# Altium footprint library IC.PcbLib: 31 footprints (part 1 of 2)
Each footprint in its own frame and in the unit in brackets; x right, y up, seen from the top. Pads: shape width x height; smd on the part's side, far side on the other; paste and mask are expansions set on the pad; w line width, h text height; cw(c..) or ccw(c..) is an arc to the next point about the centre after c.
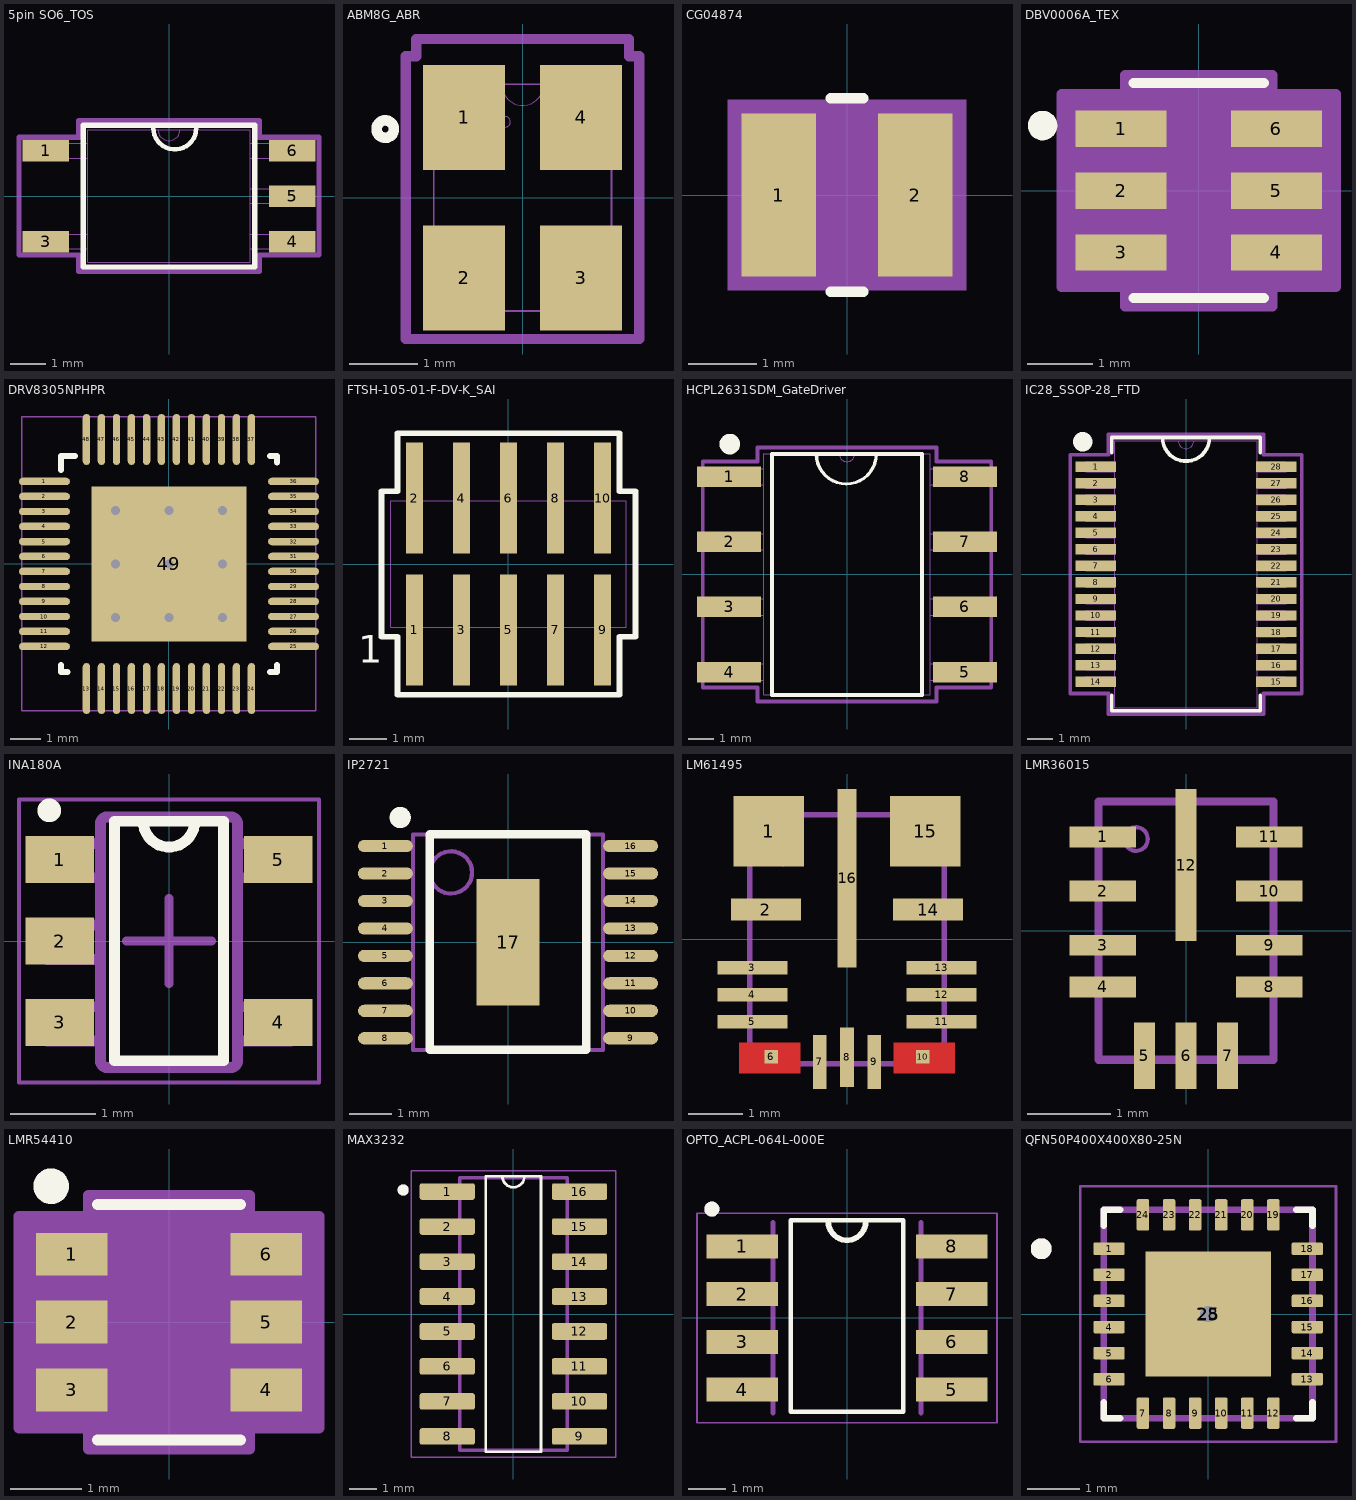
[diagram p0: the footprints below, top view; thin cyan lines are the x and y axes]

## 5pin SO6_TOS [mm]
pads (5):
  rect 1.3x0.6 smd paste+0: 1(-3.442,1.27) 3(-3.442,-1.27) 4(3.442,-1.27) 5(3.442,0) 6(3.442,1.27)
Top Overlay:
  lines w0.127: -0.438,1.905 ccw(c0.162,1.905) 0.762,1.905
  lines w0.152: -2.4,-1.981 -2.4,1.981 2.4,1.981 2.4,-1.981 -2.4,-1.981
Mechanical 13:
  lines w0: -0.305,1.854 ccw(c0,1.854) 0.305,1.854
  lines w0.025: -3.696,-1.473 -2.273,-1.473 -2.273,-1.067 -3.696,-1.067 -3.696,-1.473 ; -3.696,1.067 -2.273,1.067 -2.273,1.473 -3.696,1.473 -3.696,1.067 ; -2.273,-1.854 -2.273,1.854 2.273,1.854 2.273,-1.854 -2.273,-1.854 ; 2.273,-1.473 3.696,-1.473 3.696,-1.067 2.273,-1.067 2.273,-1.473 ; 2.273,-0.203 3.696,-0.203 3.696,0.203 2.273,0.203 2.273,-0.203 ; 2.273,1.067 3.696,1.067 3.696,1.473 2.273,1.473 2.273,1.067
Mechanical 15:
  lines w0.152: -4.196,-1.645 -4.196,1.645 -2.523,1.645 -2.523,2.104 2.523,2.104 2.523,1.645 4.196,1.645 4.196,-1.645 2.523,-1.645 2.523,-2.104 -2.523,-2.104 -2.523,-1.645 -4.196,-1.645
3D body "5pin SO6.step": height 2.2, standoff 0, extent -3.5,-1.85 3.5,1.85

## ABM8G_ABR [mil]
pads (4):
  rect 47x60 smd paste+0 mask+2: 1(-33.5,46) 2(-33.5,-46) 3(33.5,-46) 4(33.5,46)
Top Overlay:
  circle w6: c-78.74,39.37 r5
Mechanical 13:
  circle w0: c-10,43.5 r3
  lines w0: -12,65 ccw(c0,65) 12,65
  lines w1: -51,-65 -51,65 51,65 51,-65 -51,-65
Mechanical 15:
  lines w6: -67,-81 -61,-81 61,-81 67,-81 67,81 61,81 61,91 -61,91 -61,81 -67,81 -67,-81
3D body "ABM8G_ABR.step": height 39.09, standoff 0, extent -50.98,-65 50.98,65

## CG04874 [mm]
pads (2):
  rect 1.1x2.4 smd paste+0 mask+0: 1(-1.003,0) 2(1.003,0)
Top Overlay:
  lines w0.152: -0.242,-1.422 0.242,-1.422 ; -0.242,1.422 0.242,1.422
Mechanical 13:
  circle w0: c-0.457,0 r0.076
  lines w0: -0.305,1.295 ccw(c0,1.295) 0.305,1.295
  lines w0.025: -1.651,-1.295 1.651,-1.295 1.651,1.295 -1.651,1.295 -1.651,-1.295
Mechanical 15:
  region: -1.753,-1.27 -1.753,1.27 -1.753,1.397 1.753,1.397 1.753,1.27 1.753,-1.27 1.753,-1.397 -1.753,-1.397
3D body "XTAL_CG04874_NDK.step": height 0.99, standoff 0, extent -1.651,-1.295 1.651,1.295

## DBV0006A_TEX [mil]
pads (6):
  rect 55.12x22 smd paste+0 mask+2.76: 1(-47,37.4) 2(-47,0) 3(-47,-37.4) 4(47,-37.4) 5(47,0) 6(47,37.4)
Top Overlay:
  circle w10: c-94.49,39.37 r3.94
  lines w6: -39.5,-65 39.5,-65 ; -39.5,65 39.5,65
Mechanical 13:
  lines w0: -12,60 ccw(c0,60) 12,60
  lines w1: -59,-47.4 -59,-27.4 -34.5,-27.4 -34.5,-47.4 -59,-47.4 ; -59,-10 -59,10 -34.5,10 -34.5,-10 -59,-10 ; -59,27.4 -59,47.4 -34.5,47.4 -34.5,27.4 -59,27.4 ; -34.5,-60 34.5,-60 34.5,60 -34.5,60 -34.5,-60 ; 34.5,-47.4 34.5,-27.4 59,-27.4 59,-47.4 34.5,-47.4 ; 34.5,-10 34.5,10 59,10 59,-10 34.5,-10 ; 34.5,27.4 34.5,47.4 59,47.4 59,27.4 34.5,27.4
  text "RefDes2" at -87.5,-25 h29.53
Mechanical 15:
  region: -44.5,-58.4 -83,-58.4 -83,58.4 -44.5,58.4 -44.5,70 44.5,70 44.5,58.4 83,58.4 83,-58.4 44.5,-58.4 44.5,-70 -44.5,-70
  lines w6: -83,-58.4 -83,58.4 -44.5,58.4 -44.5,70 44.5,70 44.5,58.4 83,58.4 83,-58.4 44.5,-58.4 44.5,-70 -44.5,-70 -44.5,-58.4 -83,-58.4
3D body "DBV0006A_TEX.step": height 57.09, standoff 0, extent -59.02,-60 59.02,60

## DRV8305NPHPR [mm]
pads (49):
  oval 1.7x0.25 smd paste+0 mask+0.051: 1(-4.15,2.75) 2(-4.15,2.25) 3(-4.15,1.75) 4(-4.15,1.25) 5(-4.15,0.75) 6(-4.15,0.25) 7(-4.15,-0.25) 8(-4.15,-0.75) 9(-4.15,-1.25) 10(-4.15,-1.75) 11(-4.15,-2.25) 12(-4.15,-2.75) 25(4.15,-2.75) 26(4.15,-2.25) 27(4.15,-1.75) 28(4.15,-1.25) 29(4.15,-0.75) 30(4.15,-0.25) 31(4.15,0.25) 32(4.15,0.75) 33(4.15,1.25) 34(4.15,1.75) 35(4.15,2.25) 36(4.15,2.75)
  oval 0.25x1.7 smd paste+0 mask+0.051: 13(-2.75,-4.15) 14(-2.25,-4.15) 15(-1.75,-4.15) 16(-1.25,-4.15) 17(-0.75,-4.15) 18(-0.25,-4.15) 19(0.25,-4.15) 20(0.75,-4.15) 21(1.25,-4.15) 22(1.75,-4.15) 23(2.25,-4.15) 24(2.75,-4.15) 37(2.75,4.15) 38(2.25,4.15) 39(1.75,4.15) 40(1.25,4.15) 41(0.75,4.15) 42(0.25,4.15) 43(-0.25,4.15) 44(-0.75,4.15) 45(-1.25,4.15) 46(-1.75,4.15) 47(-2.25,4.15) 48(-2.75,4.15)
  rect 5.17x5.17 smd paste+0 mask+0.051: 49(0,0)
via 1.778,0 diameter 0.6 hole 0.305
via 1.778,-1.778 diameter 0.6 hole 0.305
via 0,-1.778 diameter 0.6 hole 0.305
via -1.778,-1.778 diameter 0.6 hole 0.305
via -1.778,0 diameter 0.6 hole 0.305
via -1.778,1.778 diameter 0.6 hole 0.305
via 0,1.778 diameter 0.6 hole 0.305
via 1.778,1.778 diameter 0.6 hole 0.305
via 0,0 diameter 0.6 hole 0.305
Top Overlay:
  lines w0.2: -3.6,-3.375 -3.6,-3.6 -3.375,-3.6 ; -3.6,3.125 -3.6,3.6 -3.125,3.6 ; 3.375,-3.6 3.6,-3.6 3.6,-3.375 ; 3.375,3.6 3.6,3.6 3.6,3.375
Mechanical 15:
  lines w0.05: -4.9,-4.9 -4.9,4.9 4.9,4.9 4.9,-4.9 -4.9,-4.9
  lines w0.1: -0.5,0 0.5,0 ; 0,-0.5 0,0.5
3D body "PHP0048N.stp": height 1.1, standoff 0, extent -4.516,-4.515 4.515,4.516

## FTSH-105-01-F-DV-K_SAI [mil]
pads (10):
  rect 17.72x118 smd paste-59 mask+1.97: 1(-100,-70) 2(-100,70) 3(-50,-70) 4(-50,70) 5(0,-70) 6(0,70) 7(50,-70) 8(50,70) 9(100,-70) 10(100,70)
Top Overlay:
  lines w6: -135,-77.5 -118,-77.5 -118,-139 118,-139 118,-77.5 135,-77.5 135,77.5 118,77.5 118,139 -118,139 -118,77.5 -135,77.5 -135,-77.5
  text "1" at -160,-105 h29.53
Mechanical 13:
  lines w1: -125,-67.5 -125,67.5 125,67.5 125,-67.5 -125,-67.5
3D body "ftsh-105-01-f-dv-k.stp": height 236.81, standoff -4.19, extent -124.02,-115 125.98,115

## HCPL2631SDM_GateDriver [mm]
pads (8):
  rect 2.5x0.8 smd paste+0: 1(-4.6,3.81) 2(-4.6,1.27) 3(-4.6,-1.27) 4(-4.6,-3.81) 5(4.6,-3.81) 6(4.6,-1.27) 7(4.6,1.27) 8(4.6,3.81)
Top Overlay:
  circle w0.4: c-4.572,5.08 r0.2
  lines w0.127: -1.199,4.699 ccw(c-0.028,4.699) 1.143,4.699
  lines w0.15: -2.921,-4.699 2.921,-4.699 2.921,4.699 -2.921,4.699 -2.921,-4.699
Mechanical 13:
  lines w0.025: -0.305,4.699 ccw(c0,4.699) 0.305,4.699 ; -5.016,-4.127 -3.238,-4.127 -3.238,-3.492 -5.016,-3.492 -5.016,-4.127 ; -5.016,-1.587 -3.238,-1.587 -3.238,-0.953 -5.016,-0.953 -5.016,-1.587 ; -5.016,0.953 -3.238,0.953 -3.238,1.587 -5.016,1.587 -5.016,0.953 ; -5.016,3.492 -3.238,3.492 -3.238,4.127 -5.016,4.127 -5.016,3.492 ; -3.238,-4.699 -3.238,4.699 3.238,4.699 3.238,-4.699 -3.238,-4.699 ; 3.238,-4.127 5.016,-4.127 5.016,-3.492 3.238,-3.492 3.238,-4.127 ; 3.238,-1.587 5.016,-1.587 5.016,-0.953 3.238,-0.953 3.238,-1.587 ; 3.238,0.953 5.016,0.953 5.016,1.587 3.238,1.587 3.238,0.953 ; 3.238,3.492 5.016,3.492 5.016,4.127 3.238,4.127 3.238,3.492
  text "*" at -3.175,3.353 h1.27
Mechanical 15:
  lines w0.152: -5.626,-4.407 -3.492,-4.407 -3.492,-4.953 3.492,-4.953 3.492,-4.407 5.626,-4.407 5.626,4.407 3.492,4.407 3.492,4.953 -3.492,4.953 -3.492,4.407 -5.626,4.407 -5.626,-4.407
3D body "SO8_PVT422S_INF.step": height 3.99, standoff 0, extent -5.017,-4.699 5.017,4.699

## IC28_SSOP-28_FTD [mm]
pads (28):
  rect 1.6x0.41 smd paste+0 mask+0.06: 1(-3.547,4.225) 2(-3.547,3.575) 3(-3.547,2.925) 4(-3.547,2.275) 5(-3.547,1.625) 6(-3.547,0.975) 7(-3.547,0.325) 8(-3.547,-0.325) 9(-3.547,-0.975) 10(-3.547,-1.625) 11(-3.547,-2.275) 12(-3.547,-2.925) 13(-3.547,-3.575) 14(-3.547,-4.225) 15(3.547,-4.225) 16(3.547,-3.575) 17(3.547,-2.925) 18(3.547,-2.275) 19(3.547,-1.625) 20(3.547,-0.975) 21(3.547,-0.325) 22(3.547,0.325) 23(3.547,0.975) 24(3.547,1.625) 25(3.547,2.275) 26(3.547,2.925) 27(3.547,3.575) 28(3.547,4.225)
Top Overlay:
  circle w0.508: c-4.064,5.207 r0.127
  lines w0.15: -0.927,5.372 ccw(c0,5.372) 0.927,5.372
  lines w0.152: -2.921,-4.773 -2.921,-5.372 2.921,-5.372 2.921,-4.773 ; -2.921,4.773 -2.921,5.372 2.921,5.372 2.921,4.773
Mechanical 13:
  lines w0.025: -0.305,5.245 ccw(c0,5.245) 0.305,5.245 ; -3.95,-4.415 -2.794,-4.415 -2.794,-4.034 -3.95,-4.034 -3.95,-4.415 ; -3.95,-3.765 -2.794,-3.765 -2.794,-3.384 -3.95,-3.384 -3.95,-3.765 ; -3.95,-3.115 -2.794,-3.115 -2.794,-2.734 -3.95,-2.734 -3.95,-3.115 ; -3.95,-2.465 -2.794,-2.465 -2.794,-2.084 -3.95,-2.084 -3.95,-2.465 ; -3.95,-1.815 -2.794,-1.815 -2.794,-1.434 -3.95,-1.434 -3.95,-1.815 ; -3.95,-1.165 -2.794,-1.165 -2.794,-0.784 -3.95,-0.784 -3.95,-1.165 ; -3.95,-0.515 -2.794,-0.515 -2.794,-0.134 -3.95,-0.134 -3.95,-0.515 ; -3.95,0.135 -2.794,0.135 -2.794,0.516 -3.95,0.516 -3.95,0.135 ; -3.95,0.784 -2.794,0.784 -2.794,1.165 -3.95,1.165 -3.95,0.784 ; -3.95,1.435 -2.794,1.435 -2.794,1.816 -3.95,1.816 -3.95,1.435 ; -3.95,2.084 -2.794,2.084 -2.794,2.465 -3.95,2.465 -3.95,2.084 ; -3.95,2.735 -2.794,2.735 -2.794,3.116 -3.95,3.116 -3.95,2.735 ; -3.95,3.384 -2.794,3.384 -2.794,3.765 -3.95,3.765 -3.95,3.384 ; -3.95,4.035 -2.794,4.035 -2.794,4.416 -3.95,4.416 -3.95,4.035 ; -2.794,-5.245 -2.794,5.245 2.794,5.245 2.794,-5.245 -2.794,-5.245 ; 2.794,-4.416 3.95,-4.416 3.95,-4.035 2.794,-4.035 2.794,-4.416 ; 2.794,-3.765 3.95,-3.765 3.95,-3.384 2.794,-3.384 2.794,-3.765 ; 2.794,-3.116 3.95,-3.116 3.95,-2.735 2.794,-2.735 2.794,-3.116 ; 2.794,-2.465 3.95,-2.465 3.95,-2.084 2.794,-2.084 2.794,-2.465 ; 2.794,-1.816 3.95,-1.816 3.95,-1.435 2.794,-1.435 2.794,-1.816 ; 2.794,-1.165 3.95,-1.165 3.95,-0.784 2.794,-0.784 2.794,-1.165 ; 2.794,-0.516 3.95,-0.516 3.95,-0.135 2.794,-0.135 2.794,-0.516 ; 2.794,0.135 3.95,0.135 3.95,0.516 2.794,0.516 2.794,0.135 ; 2.794,0.784 3.95,0.784 3.95,1.165 2.794,1.165 2.794,0.784 ; 2.794,1.435 3.95,1.435 3.95,1.816 2.794,1.816 2.794,1.435 ; 2.794,2.084 3.95,2.084 3.95,2.465 2.794,2.465 2.794,2.084 ; 2.794,2.735 3.95,2.735 3.95,3.116 2.794,3.116 2.794,2.735 ; 2.794,3.384 3.95,3.384 3.95,3.765 2.794,3.765 2.794,3.384 ; 2.794,4.035 3.95,4.035 3.95,4.416 2.794,4.416 2.794,4.035
  text "*" at -2.73,3.899 h1.27
Mechanical 15:
  lines w0.152: -4.554,-4.694 -3.048,-4.694 -3.048,-5.499 3.048,-5.499 3.048,-4.694 4.554,-4.694 4.554,4.694 3.048,4.694 3.048,5.499 -3.048,5.499 -3.048,4.694 -4.554,4.694 -4.554,-4.694
3D body "IC28_SSOP-28_FTD.step": height 2.01, standoff 0, extent -3.95,-5.245 3.95,5.245

## INA180A [mm]
pads (5):
  rect 0.8x0.55 smd paste+0 mask+0.051: 1(-1.275,0.95) 2(-1.275,0) 3(-1.275,-0.95) 4(1.275,-0.95) 5(1.275,0.95)
Top Overlay:
  circle w0.254: c-1.397,1.524 r0.01
  lines w0.127: -0.3,1.397 ccw(c0,1.397) 0.3,1.397 ; -0.635,-1.397 -0.635,1.397 0.635,1.397 0.635,-1.397 -0.635,-1.397
Mechanical 13:
  lines w0.127: -0.801,1.371 cw(c-0.725,1.37) -0.725,1.446 ; -0.801,1.37 -0.801,-1.399 -0.801,-1.4 ccw(c-0.725,-1.399) -0.725,-1.475 ; -0.801,1.37 -0.801,1.371 ; -0.725,-1.475 -0.725,-1.475 ; -0.725,-1.475 0.723,-1.475 0.724,-1.475 ccw(c0.723,-1.399) 0.799,-1.4 0.799,-1.399 0.799,1.37 ; -0.725,1.446 0.723,1.446 0.724,1.446 cw(c0.723,1.37) 0.799,1.371 ; -0.725,1.446 -0.725,1.446 ; 0.799,1.37 0.799,1.371 ; -1.423,-1.167 -1.199,-1.167 -1.105,-1.167 -1.088,-1.167 -0.835,-1.167 -0.801,-1.167 -0.801,-0.767 -0.835,-0.767 -1.088,-0.767 -1.105,-0.767 -1.199,-0.767 -1.423,-0.767 -1.423,-1.167 ; -1.423,-0.215 -1.199,-0.215 -1.105,-0.215 -1.088,-0.215 -0.835,-0.215 -0.801,-0.215 -0.801,0.186 -0.835,0.186 -1.088,0.186 -1.105,0.186 -1.199,0.186 -1.423,0.186 -1.423,-0.215 ; -1.423,0.738 -1.199,0.738 -1.105,0.738 -1.088,0.738 -0.835,0.738 -0.801,0.738 -0.801,1.138 -0.835,1.138 -1.088,1.138 -1.105,1.138 -1.199,1.138 -1.423,1.138 -1.423,0.738 ; 0.799,-1.167 0.799,-0.767 0.834,-0.767 1.087,-0.767 1.103,-0.767 1.198,-0.767 1.422,-0.767 1.422,-1.167 1.198,-1.167 1.103,-1.167 1.087,-1.167 0.834,-1.167 0.799,-1.167 ; 0.799,0.738 0.799,1.138 0.834,1.138 1.087,1.138 1.103,1.138 1.198,1.138 1.422,1.138 1.422,0.738 1.198,0.738 1.103,0.738 1.087,0.738 0.834,0.738 0.799,0.738
Mechanical 15:
  lines w0.05: -1.75,-1.65 -1.75,1.65 1.75,1.65 1.75,-1.65 -1.75,-1.65
  lines w0.1: -0.5,0 0.5,0 ; 0,-0.5 0,0.5
3D body "DBV0005A.stp": height 1.2, standoff 0, extent -1.4,-1.45 1.4,1.45

## IP2721 [mm] "TSOP, 16-Leads, IPC Medium Density"
height 1.2
pads (17):
  oval 1.3x0.29 smd paste+0: 1(-2.9,2.275) 2(-2.9,1.625) 3(-2.9,0.975) 4(-2.9,0.325) 5(-2.9,-0.325) 6(-2.9,-0.975) 7(-2.9,-1.625) 8(-2.9,-2.275) 9(2.9,-2.275) 10(2.9,-1.625) 11(2.9,-0.975) 12(2.9,-0.325) 13(2.9,0.325) 14(2.9,0.975) 15(2.9,1.625) 16(2.9,2.275)
  rect 1.5x3 smd paste+0: 17(0,0)
Top Overlay:
  circle w0.25: c-2.55,2.95 r0.125
  lines w0.2: -1.85,-2.55 1.85,-2.55 1.85,2.55 -1.85,2.55 -1.85,-2.55
Mechanical 13:
  circle w0.1: c-1.35,1.65 r0.5
  lines w0.1: -2.25,-2.55 2.25,-2.55 2.25,2.55 -2.25,2.55 -2.25,-2.55
3D body "TSOP65P630X120_HS-17N.step": height 1.2, standoff 0, extent -3.15,-2.55 3.15,2.55

## LM61495 [mm]
pads (16):
  rect 1.3x1.3 smd mask+0.051: 1(-1.45,2) 15(1.45,2)
  rect 1.3x0.4 smd paste+0 mask+0.051: 2(-1.5,0.55) 14(1.5,0.55)
  rect 1.3x0.25 smd paste+0 mask+0.04: 3(-1.75,-0.525) 4(-1.75,-1.025) 5(-1.75,-1.525) 11(1.75,-1.525) 12(1.75,-1.025) 13(1.75,-0.525)
  rect 0.25x0.25 smd paste-0.112 mask+0.051: 6(-1.4,-2.175) 10(1.4,-2.175)
  rect 0.25x1 smd paste+0 mask+0.04: 7(-0.5,-2.27) 9(0.5,-2.27)
  rect 0.25x1.1 smd paste+0 mask+0.04: 8(0,-2.18)
  rect 0.35x3.3 smd paste+0 mask+0.051: 16(0,1.13)
Top Layer:
  rectangle: -2.001,-2.486 -0.858,-1.914
  rectangle: 0.858,-2.486 2.001,-1.914
Mechanical 13:
  circle w0.1: c-1.2,1.7 r0.3
  lines w0.1: -1.8,-2.3 -1.8,2.3 1.8,2.3 1.8,-2.3 -1.8,-2.3
3D body "RPH0016B.stp": height 1, standoff 0, extent -1.75,-2.25 1.75,2.25

## LMR36015 [mm]
pads (12):
  rect 0.8x0.25 smd paste+0 mask+0.038: 1(-1,1.125) 2(-1,0.475) 3(-1,-0.175) 4(-1,-0.675) 8(1,-0.675) 9(1,-0.175) 10(1,0.475) 11(1,1.125)
  rect 0.25x0.8 smd paste+0 mask+0.038: 5(-0.5,-1.5) 6(0,-1.5) 7(0.5,-1.5)
  rect 0.25x1.825 smd paste-0.9 mask+0.051: 12(0,0.788)
Top Paste:
  region: -0.124,0.929 -0.125,0.939 -0.125,1.651 -0.124,1.661 -0.121,1.67 -0.117,1.679 -0.11,1.686 -0.103,1.693 -0.094,1.697 -0.085,1.7 -0.075,1.701 0.075,1.701 0.085,1.7 0.094,1.697 0.103,1.693 0.11,1.686 0.117,1.679 0.121,1.67 0.124,1.661 0.125,1.651 0.125,0.939 0.124,0.929 0.121,0.92 0.117,0.911 0.11,0.904 0.103,0.897 0.094,0.893 0.085,0.89 0.075,0.889 -0.075,0.889 -0.085,0.89 -0.094,0.893 -0.103,0.897 -0.11,0.904 -0.117,0.911 -0.121,0.92
  region: -0.124,-0.086 -0.125,-0.076 -0.125,0.636 -0.124,0.646 -0.121,0.655 -0.117,0.664 -0.11,0.671 -0.103,0.678 -0.094,0.682 -0.085,0.685 -0.075,0.686 0.075,0.686 0.085,0.685 0.094,0.682 0.103,0.678 0.11,0.671 0.117,0.664 0.121,0.655 0.124,0.646 0.125,0.636 0.125,-0.076 0.124,-0.086 0.121,-0.095 0.117,-0.104 0.11,-0.111 0.103,-0.118 0.094,-0.122 0.085,-0.125 0.075,-0.126 -0.075,-0.126 -0.085,-0.125 -0.094,-0.122 -0.103,-0.118 -0.11,-0.111 -0.117,-0.104 -0.121,-0.095
Mechanical 13:
  circle w0.05: c-0.6,1.1 r0.141
  lines w0.1: -1.05,-1.55 -1.05,1.55 1.05,1.55 1.05,-1.55 -1.05,-1.55
3D body "RNX0012A.stp": height 1, standoff 0, extent -1,-1.5 1,1.5

## LMR54410 [mm]
pads (6):
  rect 1x0.6 smd paste+0 mask+0: 1(-1.362,0.95) 2(-1.362,0) 3(-1.362,-0.95) 4(1.362,-0.95) 5(1.362,0) 6(1.362,0.95)
Top Overlay:
  circle w0.3: c-1.651,1.905 r0.1
  lines w0.152: -1.003,-1.651 1.003,-1.651 ; -1.003,1.651 1.003,1.651
Mechanical 13:
  lines w0: -0.305,1.524 ccw(c0,1.524) 0.305,1.524
  lines w0.025: -1.499,-1.204 -1.499,-0.696 -0.876,-0.696 -0.876,-1.204 -1.499,-1.204 ; -1.499,-0.254 -1.499,0.254 -0.876,0.254 -0.876,-0.254 -1.499,-0.254 ; -1.499,0.696 -1.499,1.204 -0.876,1.204 -0.876,0.696 -1.499,0.696 ; -0.876,-1.524 0.876,-1.524 0.876,1.524 -0.876,1.524 -0.876,-1.524 ; 0.876,-1.204 0.876,-0.696 1.499,-0.696 1.499,-1.204 0.876,-1.204 ; 0.876,-0.254 0.876,0.254 1.499,0.254 1.499,-0.254 0.876,-0.254 ; 0.876,0.696 0.876,1.204 1.499,1.204 1.499,0.696 0.876,0.696
  text "*" at -0.813,0.178 h1.27
Mechanical 15:
  region: -1.13,-1.483 -2.103,-1.483 -2.103,1.483 -1.13,1.483 -1.13,1.778 1.13,1.778 1.13,1.483 2.103,1.483 2.103,-1.483 1.13,-1.483 1.13,-1.778 -1.13,-1.778
  lines w0.152: -2.103,-1.483 -2.103,1.483 -1.13,1.483 -1.13,1.778 1.13,1.778 1.13,1.483 2.103,1.483 2.103,-1.483 1.13,-1.483 1.13,-1.778 -1.13,-1.778 -1.13,-1.483 -2.103,-1.483
3D body "SOT-23-6-DBV_TEX.step": height 1.45, standoff 0, extent -1.499,-1.524 1.499,1.524

## MAX3232 [mm]
height 1.75
pads (16):
  rrect25% 2x0.6 smd paste+0 mask+0.08: 1(-2.4,4.445) 2(-2.4,3.175) 3(-2.4,1.905) 4(-2.4,0.635) 5(-2.4,-0.635) 6(-2.4,-1.905) 7(-2.4,-3.175) 8(-2.4,-4.445) 9(2.4,-4.445) 10(2.4,-3.175) 11(2.4,-1.905) 12(2.4,-0.635) 13(2.4,0.635) 14(2.4,1.905) 15(2.4,3.175) 16(2.4,4.445)
Top Overlay:
  circle w0.2: c-4,4.5 r0.1
  lines w0.1: -0.4,5 ccw(c0,5) 0.4,5 ; -1,-5 -1,5 1,5 1,-5 -1,-5
Mechanical 13:
  circle w0.2: c-4,4.5 r0.1
  lines w0.127: -1.95,-4.95 1.95,-4.95 1.95,4.95 -1.95,4.95 -1.95,-4.95
Mechanical 15:
  lines w0.05: -3.71,-5.2 3.71,-5.2 3.71,5.2 -3.71,5.2 -3.71,-5.2
3D body "step_temp.STEP": height 1.75, standoff 0, extent -3,-4.95 3,4.95

## OPTO_ACPL-064L-000E [mm]
height 3.607
pads (8):
  rect 1.91x0.64 smd: 1(-2.79,1.905) 2(-2.79,0.635) 3(-2.79,-0.635) 4(-2.79,-1.905) 5(2.79,-1.905) 6(2.79,-0.635) 7(2.79,0.635) 8(2.79,1.905)
Top Overlay:
  circle w0.2: c-3.6,2.9 r0.1
  lines w0.127: -1.5,-2.5 -1.5,2.6 1.5,2.6 1.5,-2.5 -1.5,-2.5
  lines w0.15: -0.5,2.572 ccw(c0,2.572) 0.5,2.572
Mechanical 13:
  circle w0.2: c-3.6,2.9 r0.1
  lines w0.127: -1.968,-2.54 -1.968,2.54 ; 1.968,-2.54 1.968,2.54
Mechanical 15:
  lines w0.05: -3.995,-2.79 -3.995,2.79 3.995,2.79 3.995,-2.79 -3.995,-2.79
3D body "SO-8-2_AVA.step": height 3.3, standoff 0, extent -3.099,-2.54 3.099,2.54

## QFN50P400X400X80-25N [mm]
height 0.8
pads (26):
  rrect25% 0.6x0.24 smd mask+0.07: 1(-1.9,1.25) 2(-1.9,0.75) 3(-1.9,0.25) 4(-1.9,-0.25) 5(-1.9,-0.75) 6(-1.9,-1.25) 13(1.9,-1.25) 14(1.9,-0.75) 15(1.9,-0.25) 16(1.9,0.25) 17(1.9,0.75) 18(1.9,1.25)
  rrect25% 0.24x0.6 smd mask+0.07: 7(-1.25,-1.9) 8(-0.75,-1.9) 9(-0.25,-1.9) 10(0.25,-1.9) 11(0.75,-1.9) 12(1.25,-1.9) 19(1.25,1.9) 20(0.75,1.9) 21(0.25,1.9) 22(-0.25,1.9) 23(-0.75,1.9) 24(-1.25,1.9)
  rect 2.4x2.4 smd paste-2 mask+0.07: 25(0,0)
  round 0.5 hole 0.305 mask+0: 28(0,0)
Top Overlay:
  circle w0.2: c-3.2,1.25 r0.1
  lines w0.127: -2,-1.69 -2,-2 -1.69,-2 ; -2,1.69 -2,2 -1.69,2 ; 1.69,-2 2,-2 2,-1.69 ; 1.69,2 2,2 2,1.69
Top Paste:
  region: 1.18,-1.18 0.1,-1.18 0.1,-0.1 1.18,-0.1
  region: -0.1,0.1 -1.18,0.1 -1.18,1.18 -0.1,1.18
  region: 1.18,0.1 0.1,0.1 0.1,1.18 1.18,1.18
  region: -0.1,-1.18 -1.18,-1.18 -1.18,-0.1 -0.1,-0.1
Mechanical 13:
  circle w0.2: c-3.2,1.25 r0.1
  lines w0.127: -2,-2 2,-2 2,2 -2,2 -2,-2
Mechanical 15:
  lines w0.05: -2.45,-2.45 -2.45,2.45 2.45,2.45 2.45,-2.45 -2.45,-2.45
3D body "step_temp.STEP": height 0.8, standoff 0, extent -2,-2 2,2